# Altium footprint library my_lib.PcbLib: 38 footprints (part 3 of 3)
Each footprint in its own frame and in the unit in brackets; x right, y up, seen from the top. Pads: shape width x height; smd on the part's side, far side on the other; paste and mask are expansions set on the pad; w line width, h text height; cw(c..) or ccw(c..) is an arc to the next point about the centre after c.
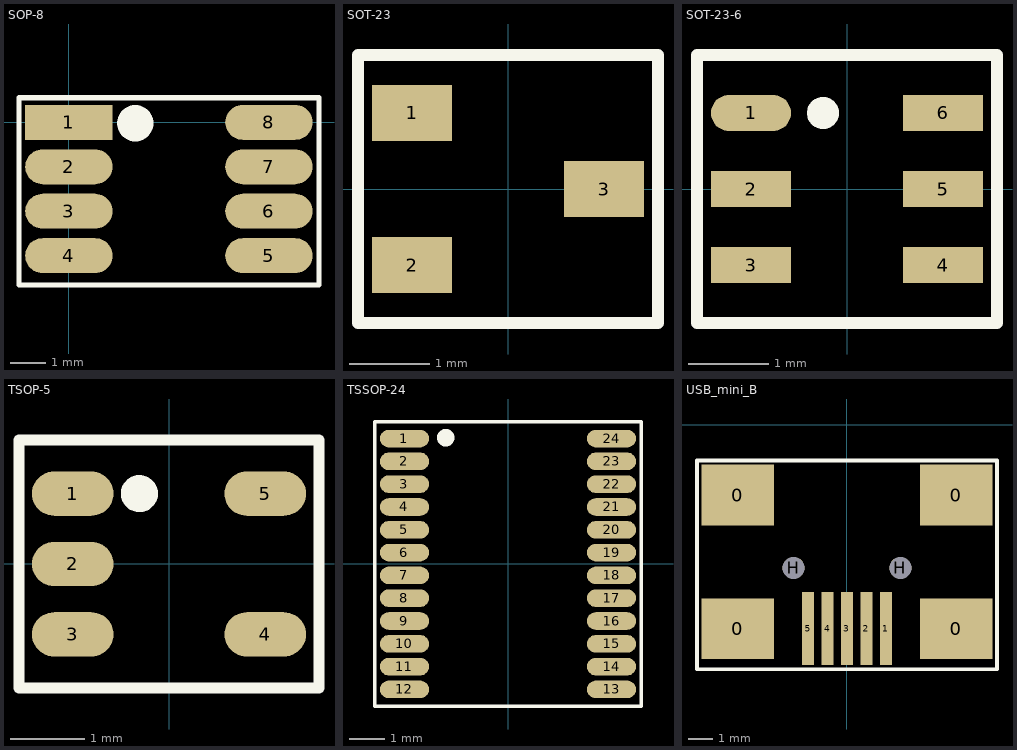
[diagram p2: the footprints below, top view; thin cyan lines are the x and y axes]

## SOP-8 [mm]
pads (8):
  rect 2.5x1 smd: 1(0,0)
  oval 2.5x1 smd: 2(0,-1.27) 3(0,-2.54) 4(0,-3.81) 5(5.72,-3.81) 6(5.72,-2.54) 7(5.72,-1.27) 8(5.72,0)
Top Overlay:
  lines w0.15: -1.425,-4.65 7.15,-4.65 7.15,0.7 -1.425,0.7 -1.425,-4.65
  lines w0.7: 1.732,-0.029 ccw(c1.9,-0.025) 1.741,0.032
3D body "User Library-HSOP8-1.STEP": height 1.74, standoff -0.01, extent -0.4,-4.475 5.8,0.525

## SOT-23 [mm]
pads (3):
  rect 1x0.7 smd paste-0.05: 1(-1.2,0.95) 2(-1.2,-0.95) 3(1.2,0)
Top Overlay:
  lines w0.15: -1.875,-1.675 -1.1,-1.675 -0.825,-1.675 1.875,-1.675 1.875,1.675 -1.875,1.675 -1.875,-1.675
3D body "SOT-23.stp": height 1, standoff 0, extent -1.25,-1.5 1.25,1.5

## SOT-23-6 [mm]
pads (6):
  oval 1x0.45 smd: 1(-1.2,0.95)
  rect 1x0.45 smd: 2(-1.2,0) 3(-1.2,-0.95) 4(1.2,-0.95) 5(1.2,0) 6(1.2,0.95)
Top Overlay:
  circle w0.2: c-0.3,0.95 r0.1
  lines w0.15: -1.875,-1.675 -1.15,-1.675 -0.675,-1.675 1.875,-1.675 1.875,1.675 -1.875,1.675 -1.875,-1.675
3D body "SOT-23.stp": height 1.35, standoff 0, extent -1.4,-1.5 1.4,1.5

## TSOP-5 [mm]
pads (5):
  oval 1.1x0.6 smd: 1(-1.3,0.95) 2(-1.3,0) 3(-1.3,-0.95) 4(1.3,-0.95) 5(1.3,0.95)
Top Overlay:
  circle w0.25: c-0.4,0.95 r0.125
  lines w0.15: -2.025,-1.675 -0.55,-1.675 -0.15,-1.675 2.025,-1.675 2.025,1.675 -2.025,1.675 -2.025,-1.675
3D body: height 1.1, standoff 0.1, extent -0.75,-1.5 0.75,1.5

## TSSOP-24 [mm] "TSOP, 24-Leads, Body 7,80x4,40mm, Pitch 0,65mm, IPC Medium Density"
height 1.2
pads (24):
  oval 1.4x0.5 smd: 1(-2.95,3.575) 2(-2.95,2.925) 3(-2.95,2.275) 4(-2.95,1.625) 5(-2.95,0.975) 6(-2.95,0.325) 7(-2.95,-0.325) 8(-2.95,-0.975) 9(-2.95,-1.625) 10(-2.95,-2.275) 11(-2.95,-2.925) 12(-2.95,-3.575) 13(2.95,-3.575) 14(2.95,-2.925) 15(2.95,-2.275) 16(2.95,-1.625) 17(2.95,-0.975) 18(2.95,-0.325) 19(2.95,0.325) 20(2.95,0.975) 21(2.95,1.625) 22(2.95,2.275) 23(2.95,2.925) 24(2.95,3.575)
Top Overlay:
  circle w0.25: c-1.775,3.6 r0.125
  lines w0.1: -3.8,-4.05 3.8,-4.05 3.8,4.05 -3.8,4.05 -3.8,-4.05
3D body "User Library-TSSOP-24.STEP": height 1.2, standoff 0, extent -3.25,-3.9 3.15,3.9

## USB_mini_B [mm]
pads (11):
  rect 3x2.5 smd paste-2: 0(-4.5,-8.4) 0(-4.5,-2.9) 0(4.5,-8.4) 0(4.5,-2.9)
  rect 0.5x3 smd: 1(1.6,-8.4) 2(0.8,-8.4) 3(0,-8.4) 4(-0.8,-8.4) 5(-1.6,-8.4)
  round 0.9 hole 0.9 unplated mask+0: H(-2.2,-5.9) H(2.2,-5.9)
Top Overlay:
  lines w0.15: -6.175,-10.075 -6.175,-8.4 -6.175,-8.05 -6.175,-1.475 -5.225,-1.475 6.175,-1.475 6.175,-9.825 6.175,-10.075 -6.175,-10.075
Top Paste:
  rectangle: -5.85,-4.051 -4.7,-1.751
  rectangle: -4.299,-4.05 -3.149,-1.75
  rectangle: -4.3,-9.549 -3.15,-7.249
  rectangle: -5.851,-9.55 -4.701,-7.25
  rectangle: 4.7,-4.051 5.85,-1.751
  rectangle: 3.151,-4.05 4.301,-1.75
  rectangle: 4.699,-9.55 5.849,-7.25
  rectangle: 3.15,-9.549 4.3,-7.249
3D body "USB_mini_B.stp": height 3.95, standoff -1, extent -5.35,-9.2 5.35,0